# Altium schematic symbol library TUW5JR10E.SchLib: 2 symbols
Pins are listed as number, name and electrical type; pins without a type are passive.

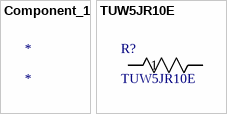
[diagram p0: symbols Component_1 to TUW5JR10E]

## Component_1
designator *

## TUW5JR10E
designator R?
No Description Available; Mfr_Name: Ohmite; Copyright: Copyright (C) 2022 Ultra Librarian. All rights reserved.; Manufacturer_Part_Number: TUW5JR10E; RefDes: RefDes; Type: DEV
footprint RES_TUM5_OHM
pins: 1, 2